# EAGLE library part CINVESTAV_PINHEADER_6 (library VUG)
PIN HEADER 1X06
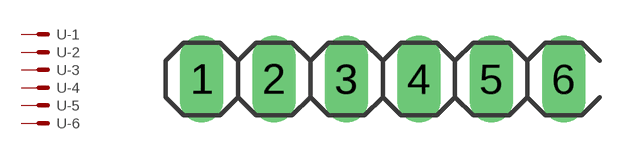
[diagram p3: symbol with the pads of CINVESTAV_1X6; footprint CINVESTAV_1X6]

Designator prefix -; gates -1=CINVESTAV_PIN -2=CINVESTAV_PIN -3=CINVESTAV_PIN -4=CINVESTAV_PIN -5=CINVESTAV_PIN -6=CINVESTAV_PIN

## CINVESTAV_PINHEADER_6  [CINVESTAV_1X6]
1  -1:S  pas
2  -2:S  pas
3  -3:S  pas
4  -4:S  pas
5  -5:S  pas
6  -6:S  pas

## Footprint CINVESTAV_1X6 (pad centres in mm)
PIN HEADER
drill 1.016 long: 1 -6.35,0; 2 -3.81,0; 3 -1.27,0; 4 1.27,0; 5 3.81,0; 6 6.35,0